# EAGLE library part TLV6004IPWR (library TLV6004IPWR)
Operational Amplifiers - Op Amps 1-MHz, Low-Power Operational Amplifier for Cost-Sensitive Systems 14-TSSOP -40 to 125 Source: Datasheet <http://www.ti.com/lit/gpn/tlv6004>
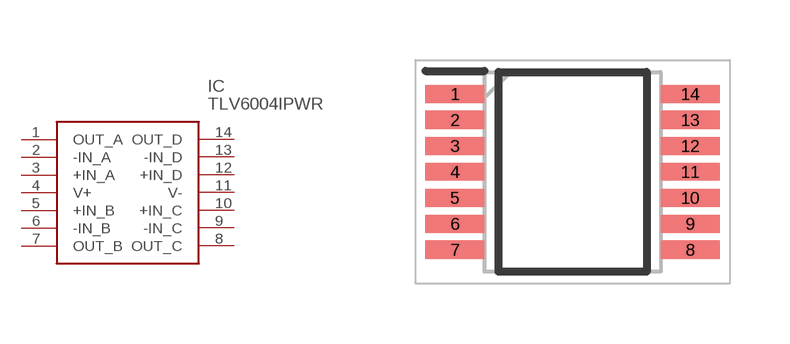
[diagram p0: symbol with the pads of SOP65P640X120-14N; footprint SOP65P640X120-14N]

Designator prefix IC

## TLV6004IPWR (Description: Operational Amplifiers - Op Amps 1-MHz, Low-Power Operational Amplifier for Cost-Sensitive Systems 14-TSSOP -40 to 125; Height: 1.2mm; Manufacturer_Name: Texas Instruments; Manufacturer_Part_Number: TLV6004IPWR; TI_store_Part_Number: TLV6004IPWR)  [SOP65P640X120-14N]
1  OUT_A
2  -IN_A
3  +IN_A
4  V+
5  +IN_B
6  -IN_B
7  OUT_B
8  OUT_C
9  -IN_C
10  +IN_C
11  V-
12  +IN_D
13  -IN_D
14  OUT_D

## Footprint SOP65P640X120-14N (pad centres in mm)
TSSOP-14
smd 1.475 x 0.45: 1 -2.938,1.95; 2 -2.938,1.3; 3 -2.938,0.65; 4 -2.938,0; 5 -2.938,-0.65; 6 -2.938,-1.3; 7 -2.938,-1.95; 8 2.938,-1.95; 9 2.938,-1.3; 10 2.938,-0.65; 11 2.938,0; 12 2.938,0.65; 13 2.938,1.3; 14 2.938,1.95